# Altium footprint library IC.PCBLIB: 30 footprints (part 1 of 2)
Each footprint in its own frame and in the unit in brackets; x right, y up, seen from the top. Pads: shape width x height; smd on the part's side, far side on the other; paste and mask are expansions set on the pad; w line width, h text height; cw(c..) or ccw(c..) is an arc to the next point about the centre after c.
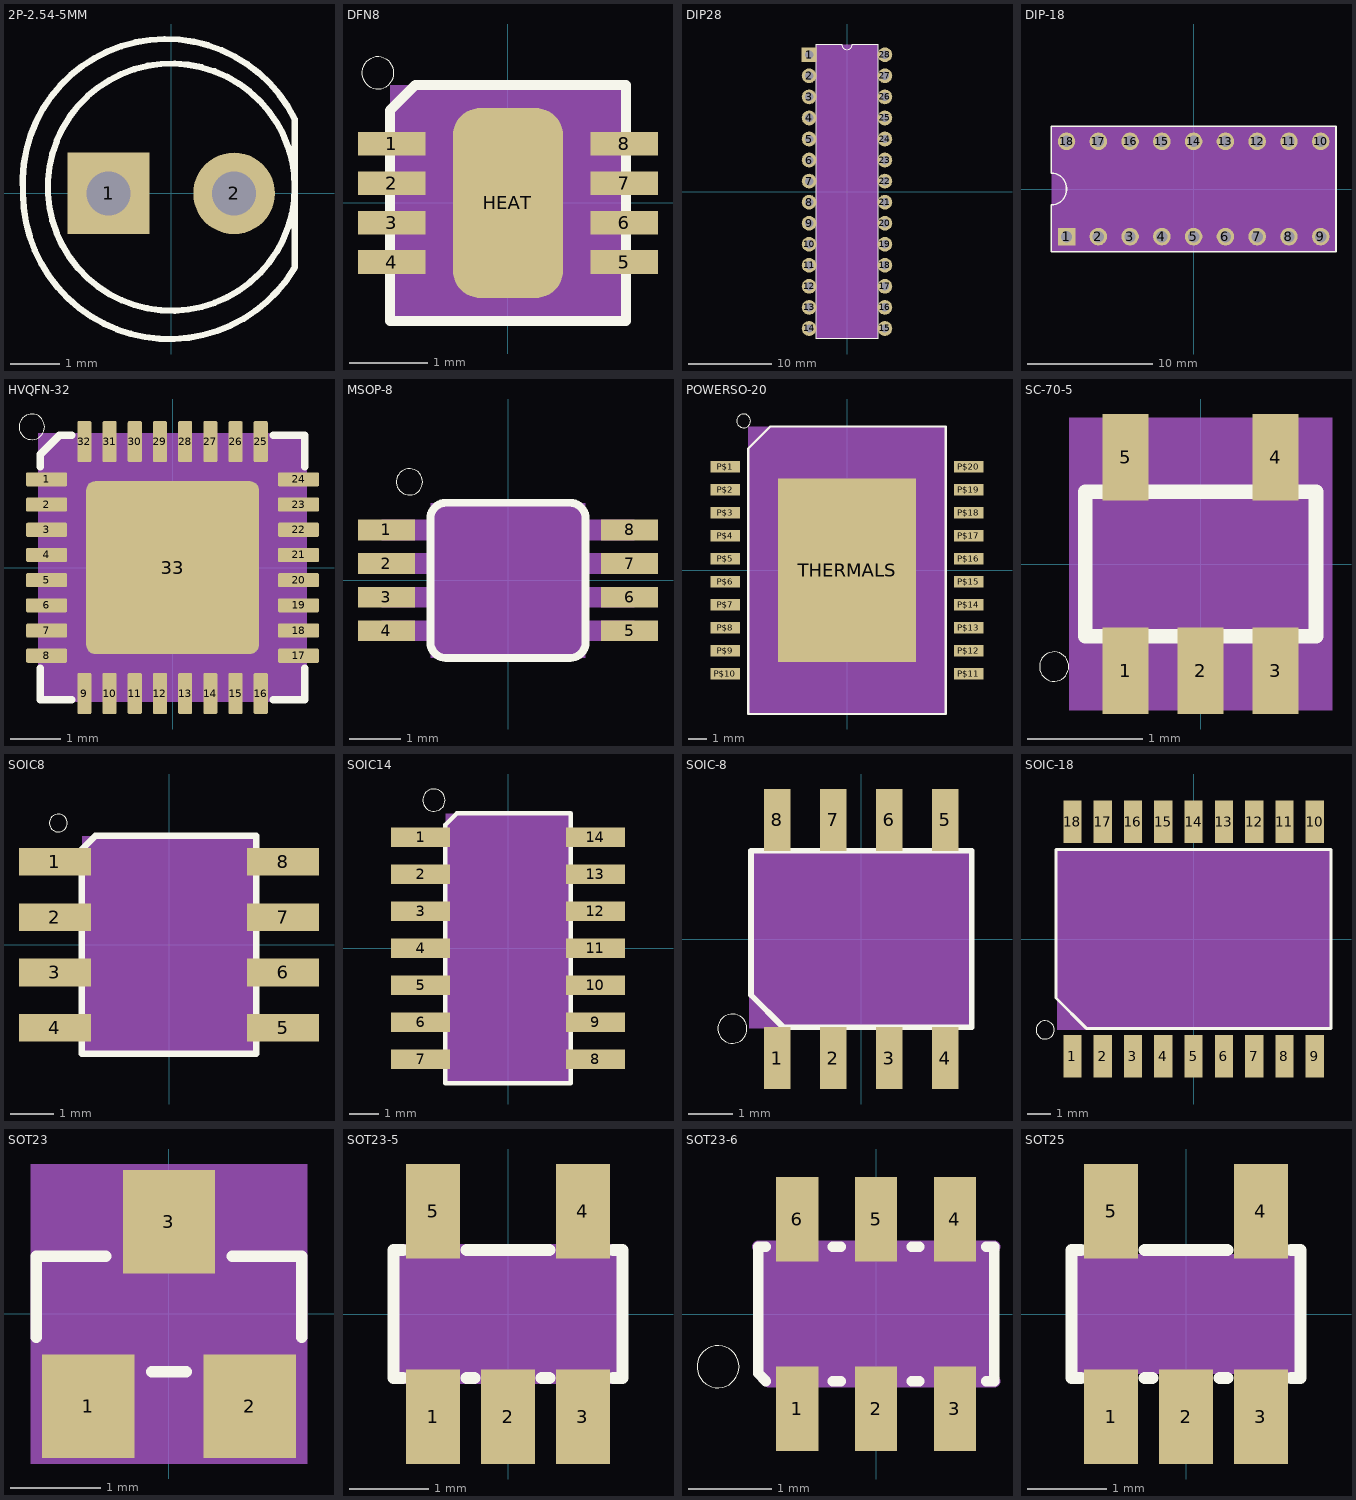
[diagram p0: the footprints below, top view; thin cyan lines are the x and y axes]

## 2P-2.54-5MM [mil]
pads (2):
  rect 65x65 hole 35: 1(-50,0)
  round 65 hole 35: 2(50,0)
Top Overlay:
  circle w5: c0,5 r98.43
  lines w5: -118.11,0 ccw(c-1.66,0.46) 98.43,-59.06 98.43,59.06 ccw(c-4.15,8.68) -118.11,0

## DFN8 [mil]
pads (9):
  rect 33.62x11.81 smd: 1(-58.15,29.53) 2(-58.15,9.84) 3(-58.15,-9.84) 4(-58.15,-29.53) 5(58.15,-29.53) 6(58.15,-9.84) 7(58.15,9.84) 8(58.15,29.53)
  rrect50% 55x95 smd: HEAT(0,0)
Top Overlay:
  circle w0: c-65,65 r8
  lines w5: -59.06,-59.06 59.06,-59.06 59.06,59.06 -46.25,59.06 -59.06,46.25 -59.06,-59.06
Mechanical 27:
  region: -59.06,59.06 -59.06,-59.06 59.06,-59.06 59.06,59.06

## DIP28 [mil]
pads (28):
  rect 70x70 hole 40: 1(-180,650)
  round 70 hole 40: 2(-180,550) 3(-180,450) 4(-180,350) 5(-180,250) 6(-180,150) 7(-180,50) 8(-180,-50) 9(-180,-150) 10(-180,-250) 11(-180,-350) 12(-180,-450) 13(-180,-550) 14(-180,-650) 15(180,-650) 16(180,-550) 17(180,-450) 18(180,-350) 19(180,-250) 20(180,-150) 21(180,-50) 22(180,50) 23(180,150) 24(180,250) 25(180,350) 26(180,450) 27(180,550) 28(180,650)
Top Overlay:
  lines w5: -147,700 -147,-700 147,-700 147,700 25,700 cw(c0,700) -25,700 -145,700
Mechanical 27:
  rectangle: -147,-700 147,700

## DIP-18 [mil]
pads (18):
  rect 55.12x55.12 hole 35.43: 1(-400,-150)
  round 55.12 hole 35.43: 2(-300,-150) 3(-200,-150) 4(-100,-150) 5(0,-150) 6(100,-150) 7(200,-150) 8(300,-150) 9(400,-150) 10(400,150) 11(300,150) 12(200,150) 13(100,150) 14(0,150) 15(-100,150) 16(-200,150) 17(-300,150) 18(-400,150)
Top Overlay:
  lines w5: -448.03,-196.85 448.03,-196.85 448.03,196.85 -448.03,196.85 -448.03,50 cw(c-448.03,1.97) -400,1.97 -400,-1.97 cw(c-448.03,-1.97) -448.03,-50 -448.03,-196.85
Mechanical 27:
  rectangle: -448.03,-196.85 448.03,196.85

## HVQFN-32 [mil]
pads (33):
  rrect20% 32x11 smd: 1(-98.43,68.9) 2(-98.43,49.21) 3(-98.43,29.53) 4(-98.43,9.84) 5(-98.43,-9.84) 6(-98.43,-29.53) 7(-98.43,-49.21) 8(-98.43,-68.9) 17(98.43,-68.9) 18(98.43,-49.21) 19(98.43,-29.53) 20(98.43,-9.84) 21(98.43,9.84) 22(98.43,29.53) 23(98.43,49.21) 24(98.43,68.9)
  rrect20% 11x32 smd: 9(-68.9,-98.43) 10(-49.21,-98.43) 11(-29.53,-98.43) 12(-9.84,-98.43) 13(9.84,-98.43) 14(29.53,-98.43) 15(49.21,-98.43) 16(68.9,-98.43) 25(68.9,98.43) 26(49.21,98.43) 27(29.53,98.43) 28(9.84,98.43) 29(-9.84,98.43) 30(-29.53,98.43) 31(-49.21,98.43) 32(-68.9,98.43)
  rrect10% 135x135 smd: 33(0,0)
Top Overlay:
  circle w0: c-110,110 r10
  lines w6: -103.35,-78.74 -103.35,-103.35 -78.74,-103.35 ; -103.35,78.74 -103.35,88.35 -88.35,103.35 -78.74,103.35 ; 78.74,-103.35 103.35,-103.35 103.35,-78.74 ; 78.74,103.35 103.35,103.35 103.35,78.74
Top Paste:
  circle w0: c0,0 r15
  circle w0: c-40,40 r15
  circle w0: c-40,-40 r15
  circle w0: c40,-40 r15
  circle w0: c40,40 r15
Mechanical 27:
  rectangle: -105,-105 105,105

## MSOP-8 [mm]
pads (8):
  rect 1.1x0.4 smd: 1(-2.35,0.975) 2(-2.35,0.325) 3(-2.35,-0.325) 4(-2.35,-0.975) 5(2.35,-0.975) 6(2.35,-0.325) 7(2.35,0.325) 8(2.35,0.975)
Top Overlay:
  circle w0: c-1.905,1.905 r0.254
  lines w0.152: -1.5,-1.2 -1.5,1.2 cw(c-1.2,1.2) -1.2,1.5 1.2,1.5 cw(c1.2,1.2) 1.5,1.2 1.5,-1.2 cw(c1.2,-1.2) 1.2,-1.5 -1.2,-1.5 cw(c-1.2,-1.2) -1.5,-1.2
Mechanical 16:
  region: 2.45,-1.175 2.45,-0.775 1.55,-0.775 1.55,-1.175
  region: 2.45,-0.525 2.45,-0.125 1.55,-0.125 1.55,-0.525
  region: 2.45,0.125 2.45,0.525 1.55,0.525 1.55,0.125
  region: 2.45,0.775 2.45,1.175 1.55,1.175 1.55,0.775
  region: -1.55,0.775 -1.55,1.175 -2.45,1.175 -2.45,0.775
  region: -1.55,0.125 -1.55,0.525 -2.45,0.525 -2.45,0.125
  region: -1.55,-0.525 -1.55,-0.125 -2.45,-0.125 -2.45,-0.525
  region: -1.55,-1.175 -1.55,-0.775 -2.45,-0.775 -2.45,-1.175
Mechanical 27:
  rectangle: -1.5,-1.5 1.5,1.5

## POWERSO-20 [mil]
pads (21):
  rect 65x25 smd: P$1(-265,225) P$2(-265,175) P$3(-265,125) P$4(-265,75) P$5(-265,25) P$6(-265,-25) P$7(-265,-75) P$8(-265,-125) P$9(-265,-175) P$10(-265,-225) P$11(265,-225) P$12(265,-175) P$13(265,-125) P$14(265,-75) P$15(265,-25) P$16(265,25) P$17(265,75) P$18(265,125) P$19(265,175) P$20(265,225)
  rect 300x400 smd: THERMALS(0,0)
Top Overlay:
  circle w0: c-225,325 r15
  lines w5: -215,-313 215,-313 215,313 -167,313 -215,265 -215,-313
Top Paste:
  rectangle: -100,87.5 -25,162.5
  rectangle: 25,87.5 100,162.5
  rectangle: -100,-37.5 -25,37.5
  rectangle: 25,-37.5 100,37.5
  rectangle: -100,-162.5 -25,-87.5
  rectangle: 25,-162.5 100,-87.5
Mechanical 27:
  rectangle: -215,-313 215,313

## SC-70-5 [mm]
pads (5):
  rect 0.4x0.75 smd: 1(-0.65,-0.925) 2(0,-0.925) 3(0.65,-0.925) 4(0.65,0.925) 5(-0.65,0.925)
Top Overlay:
  circle w0: c-1.27,-0.889 r0.127
  lines w0.127: -1,-0.625 -1,0.625 1,0.625 1,-0.625 -1,-0.625
Mechanical 27:
  rectangle: -1.143,-1.27 1.143,1.27

## SOIC8 [mil]
pads (8):
  rect 65x25 smd: 1(-103,75) 2(-103,25) 3(-103,-25) 4(-103,-75) 5(103,-75) 6(103,-25) 7(103,25) 8(103,75)
Top Overlay:
  circle w0: c-100,110 r8
  lines w6: -78.74,-98.43 78.74,-98.43 78.74,98.43 -66.6,98.43 -78.74,86.29 -78.74,-98.43
Mechanical 16:
  region: -113,82 -113,68 -73,68 -73,82
  region: -113,32 -113,18 -73,18 -73,32
  region: -113,-18 -113,-32 -73,-32 -73,-18
  region: -113,-68 -113,-82 -73,-82 -73,-68
  region: 73,82 73,68 113,68 113,82
  region: 73,32 73,18 113,18 113,32
  region: 73,-18 73,-32 113,-32 113,-18
  region: 73,-68 73,-82 113,-82 113,-68
Mechanical 27:
  region: -78.74,98.43 -78.74,-98.43 78.74,-98.43 78.74,98.43

## SOIC14 [mil]
pads (14):
  rect 80x26 smd: 1(-118,150) 2(-118,100) 3(-118,50) 4(-118,0) 5(-118,-50) 6(-118,-100) 7(-118,-150) 8(118,-150) 9(118,-100) 10(118,-50) 11(118,0) 12(118,50) 13(118,100) 14(118,150)
Top Overlay:
  circle w0: c-100,200 r15
  region: -89.5,160 -89.5,140 -84.5,140 -84.5,160
  region: -89.5,160 -89.5,140 -84.5,140 -84.5,160
  region: -89.5,110 -89.5,90 -84.5,90 -84.5,110
  region: -89.5,60 -89.5,40 -84.5,40 -84.5,60
  region: -89.5,10 -89.5,-10 -84.5,-10 -84.5,10
  region: -89.5,-40 -89.5,-60 -84.5,-60 -84.5,-40
  region: -89.5,-90 -89.5,-110 -84.5,-110 -84.5,-90
  region: -89.5,-140 -89.5,-160 -84.5,-160 -84.5,-140
  region: 84.5,160 84.5,140 89.5,140 89.5,160
  region: 84.5,160 84.5,140 89.5,140 89.5,160
  region: 84.5,110 84.5,90 89.5,90 89.5,110
  region: 84.5,60 84.5,40 89.5,40 89.5,60
  region: 84.5,10 84.5,-10 89.5,-10 89.5,10
  region: 84.5,-40 84.5,-60 89.5,-60 89.5,-40
  region: 84.5,-90 84.5,-110 89.5,-110 89.5,-90
  region: 84.5,-140 84.5,-160 89.5,-160 89.5,-140
  lines w6: -84.5,-182 -84.5,166.69 -69.19,182 84.5,182 84.5,-182 -84.5,-182
Mechanical 16:
  region: -147.5,160 -147.5,140 -89.5,140 -89.5,160
  region: -147.5,110 -147.5,90 -89.5,90 -89.5,110
  region: -147.5,60 -147.5,40 -89.5,40 -89.5,60
  region: -147.5,10 -147.5,-10 -89.5,-10 -89.5,10
  region: -147.5,-40 -147.5,-60 -89.5,-60 -89.5,-40
  region: -147.5,-90 -147.5,-110 -89.5,-110 -89.5,-90
  region: -147.5,-140 -147.5,-160 -89.5,-160 -89.5,-140
  region: 89.5,160 89.5,140 147.5,140 147.5,160
  region: 89.5,110 89.5,90 147.5,90 147.5,110
  region: 89.5,60 89.5,40 147.5,40 147.5,60
  region: 89.5,10 89.5,-10 147.5,-10 147.5,10
  region: 89.5,-40 89.5,-60 147.5,-60 147.5,-40
  region: 89.5,-90 89.5,-110 147.5,-110 147.5,-90
  region: 89.5,-140 89.5,-160 147.5,-160 147.5,-140
Mechanical 27:
  region: -84.5,182 -84.5,-182 84.5,-182 84.5,182

## SOIC-8 [mil]
pads (8):
  rect 23.62x55.12 smd: 1(-75,-106.3) 2(-25,-106.3) 3(25,-106.3) 4(75,-106.3) 5(75,106.3) 6(25,106.3) 7(-25,106.3) 8(-75,106.3)
Top Overlay:
  circle w0: c-115,-80 r13
  lines w5: -98.43,-49.96 -69.64,-78.74 98.43,-78.74 98.43,78.74 -98.43,78.74 -98.43,-49.96
Mechanical 27:
  rectangle: -100,-80 100,80

## SOIC-18 [mil]
pads (18):
  rect 30x70 smd: 1(-200,-193.5) 2(-150,-193.5) 3(-100,-193.5) 4(-50,-193.5) 5(0,-193.5) 6(50,-193.5) 7(100,-193.5) 8(150,-193.5) 9(200,-193.5) 10(200,193.5) 11(150,193.5) 12(100,193.5) 13(50,193.5) 14(0,193.5) 15(-50,193.5) 16(-100,193.5) 17(-150,193.5) 18(-200,193.5)
Top Overlay:
  circle w0: c-245,-150 r15
  lines w5: -227,-97.5 -177,-147.5 227,-147.5 227,147.5 -227,147.5 -227,-97.5
Mechanical 27:
  rectangle: -225,-150 225,150

## SOT23 [mil]
pads (3):
  rect 40x45 smd: 1(-35,-40) 2(35,-40) 3(0,40)
Top Overlay:
  lines w5: -57.5,-10 -57.5,25 -27.5,25 ; -7.5,-25 7.5,-25 ; 27.5,25 57.5,25 57.5,-10
Mechanical 16:
  rectangle: -9,28 9,51
  rectangle: 28,-51 46,-28
  rectangle: -46,-51 -28,-28
Mechanical 27:
  rectangle: -60,-65 60,65

## SOT23-5 [mil]
pads (5):
  rect 27.17x47.24 smd: 1(-37.4,-51.19) 2(0,-51.19) 3(37.4,-51.19) 4(37.4,51.19) 5(-37.4,51.19)
Top Overlay:
  lines w6: -52.27,-31.91 -57.09,-31.91 -57.09,31.91 -52.27,31.91 ; -20.57,-31.91 -16.83,-31.91 ; -20.57,31.91 20.57,31.91 ; 16.83,-31.91 20.57,-31.91 ; 52.27,-31.91 57.09,-31.91 57.09,31.91 52.27,31.91
Mechanical 16:
  rectangle: -47.24,-59.06 -27.56,-33.46
  rectangle: -9.84,-59.06 9.84,-33.46
  rectangle: 27.56,-59.06 47.24,-33.46
  rectangle: 27.56,33.46 47.24,59.06
  rectangle: -47.24,33.46 -27.56,59.06
  lines w6: -56,-31.91 56,-31.91 ; -56,31.91 56,31.91
Mechanical 27:
  rectangle: -55,-30 55,30

## SOT23-6 [mil]
pads (6):
  rect 20x40 smd: 1(-37.4,-45) 2(0,-45) 3(37.4,-45) 4(37.4,45) 5(0,45) 6(-37.4,45)
Top Overlay:
  circle w0: c-75,-25 r10
  lines w5: -52.27,-31.91 -56,-28.17 -56,31.91 -52.27,31.91 ; -20.57,-31.91 -16.83,-31.91 ; -20.57,31.91 -16.83,31.91 ; 16.83,-31.91 20.57,-31.91 ; 16.83,31.91 20.57,31.91 ; 52.27,-31.91 56,-31.91 56,31.91 52.27,31.91
Mechanical 16:
  rectangle: -47.24,-59.06 -27.56,-33.46
  rectangle: -9.84,-59.06 9.84,-33.46
  rectangle: 27.56,-59.06 47.24,-33.46
  rectangle: 27.56,33.46 47.24,59.06
  rectangle: -47.24,33.46 -27.56,59.06
  rectangle: -9.84,33.46 9.84,59.06
  lines w6: -56,31.91 56,31.91 ; -51,-31.91 56,-31.91
Mechanical 27:
  rectangle: -56,-31.91 56,31.91

## SOT25 [mil]
pads (5):
  rect 27.17x47.24 smd: 1(-37.4,-51.19) 2(0,-51.19) 3(37.4,-51.19) 4(37.4,51.19) 5(-37.4,51.19)
Top Overlay:
  lines w6: -52.27,-31.91 -57.09,-31.91 -57.09,31.91 -52.27,31.91 ; -20.57,-31.91 -16.83,-31.91 ; -20.57,31.91 20.57,31.91 ; 16.83,-31.91 20.57,-31.91 ; 52.27,-31.91 57.09,-31.91 57.09,31.91 52.27,31.91
Mechanical 27:
  rectangle: -55,-30 55,30